# EAGLE library part TPS2115 (library heck)
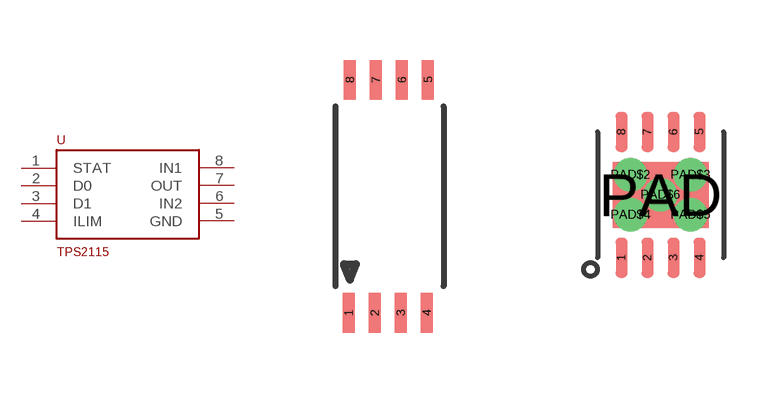
[diagram p11: symbol with the pads of TSSOP8; footprints TSSOP8, VDFN-8]

Designator prefix -

## TPS2115APWR  [TSSOP8]
1  STAT
2  D0
3  D1
4  ILIM
5  GND
6  IN2
7  OUT
8  IN1

## TPS2115DRB  [VDFN-8]
1  STAT
2  D0
3  D1
4  ILIM
5  GND
6  IN2
7  OUT
8  IN1
PAD  GND
PAD$2  GND
PAD$3  GND
PAD$4  GND
PAD$5  GND
PAD$6  GND

## Footprint TSSOP8 (pad centres in mm)
smd 0.305 x 0.991: 1 -1.02,-2.918; 2 -0.37,-2.918; 3 0.28,-2.918; 4 0.93,-2.918; 5 0.96,2.918; 6 0.31,2.918; 7 -0.34,2.918; 8 -0.99,2.918

## Footprint VDFN-8 (pad centres in mm)
smd 0.3 x 1: 1 -0.975,-1.575; 2 -0.325,-1.575; 3 0.325,-1.575; 4 0.975,-1.575; 5 0.975,1.575; 6 0.325,1.575; 7 -0.325,1.575; 8 -0.975,1.575
smd 2.4 x 1.65: PAD 0,0
drill 0.33 pad 0.61: PAD$2 -0.75,0.5; PAD$3 0.75,0.5; PAD$4 -0.75,-0.5; PAD$5 0.75,-0.5; PAD$6 0,0